# Altium schematic symbol library supply1.SCHLIB: 2 symbols
Pins are listed as number, name and electrical type; pins without a type are passive.

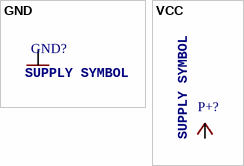
[diagram p0: symbols GND to VCC]

## GND
designator GND?, comment SUPPLY SYMBOL
pins: ?1 GND (oe)

## VCC
designator P+?, comment SUPPLY SYMBOL
pins: ?1 VCC (oe)